# Altium integrated library My Library.IntLib: 29 symbols
Pins are listed as number, name and electrical type; pins without a type are passive.

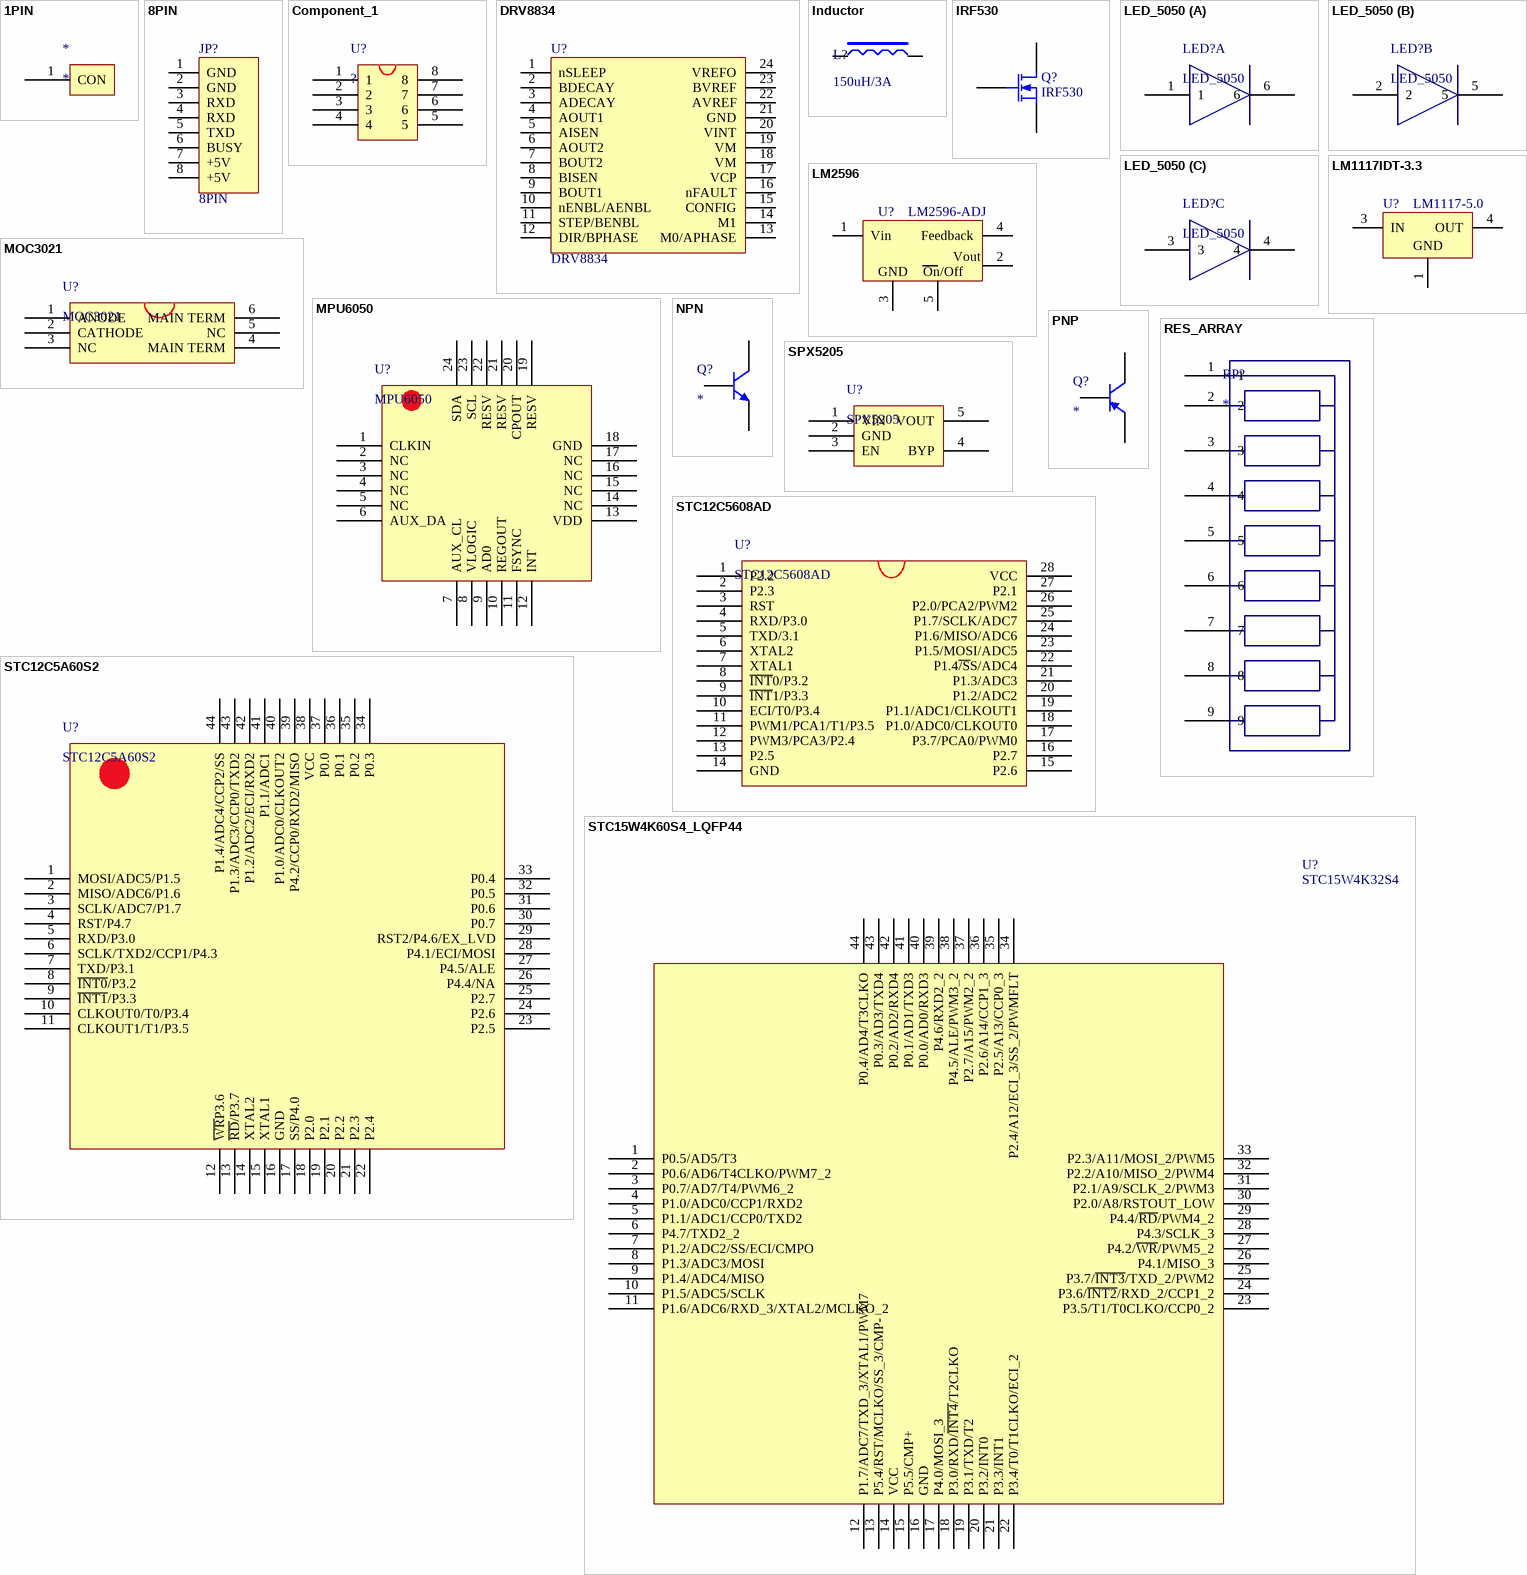
[diagram p0: symbols 1PIN to STC15W4K60S4_LQFP44]

## 1PIN
designator *
pins: 1 CON

## 8PIN
designator JP?
footprint LCD8
pins: 1 GND, 2 GND, 3 RXD, 4 RXD, 5 TXD, 6 BUSY, 7 +5V, 8 +5V

## Component_1
designator U?, comment ?
Unknow
footprint SOP-8
pins: 1, 2, 3, 4, 5, 6, 7, 8

## DRV8834
designator U?
footprint SOIC-24
pins: 1 nSLEEP, 2 BDECAY, 3 ADECAY, 4 AOUT1, 5 AISEN, 6 AOUT2, 7 BOUT2, 8 BISEN, 9 BOUT1, 10 nENBL/AENBL, 11 STEP/BENBL, 12 DIR/BPHASE, 13 M0/APHASE, 14 M1, 15 CONFIG, 16 nFAULT, 17 VCP, 18 VM, 19 VM, 20 VINT, 21 GND, 22 AVREF, 23 BVREF, 24 VREFO

## Inductor
designator L?, comment 150uH/3A
Inductor; Code_IEC: 1005; Value: 10mH; Published: 8-Jun-2000; LatestRevisionDate: 29-May-2009; LatestRevisionNote: IPC-7351 Footprint Added.; PackageReference: 0402-A; Publisher: Altium Limited; PackageDescription: Chip Inductor; Code_JEITA: 0402
footprint LDIP-5MM
simulation model INDUCTOR (Inductor)
signal-integrity model Inductor
footprint SMD-12*12
pins: 1, 2

## IRF530
designator Q?
N-Channel MOSFET; Published: 8-Jun-2000; LatestRevisionDate: 17-Jul-2002; LatestRevisionNote: Re-released for DXP Platform.; PackageVersion: 1995/1996; PackageReference: E3; Publisher: Altium Limited
footprint TO-220-3-SC; pin to pad 1>2 2>1
simulation model NMOS (MOSFET-N)
pins: 1 D, 2 G, 3 S

## LED_5050
designator LED?
part A pins: 1, 6
part B pins: 2, 5
part C pins: 3, 4

## LM1117IDT-3.3
designator U?, comment LM1117-5.0
800mA Low-Dropout Linear Regulator, 3-pin TO-252; PartNumber: LM1117IDT-3.3; Manufacturer: National Semiconductor; PackageTopMarking: NSUZXYTT*LM1117*IDT-3.3; PowerWise: N; CompType: LDO IC; Published: 4-Dec-2008; DatasheetVersion: Apr-2006; PackageVersion: revD, Feb-2009; PackageReference: TD03B; Publisher: Altium Limited; PackageDescription: TO252, Molded, Jedec, 6.8 x 6.10 x 2.30mm Body, 3 Lead, 2.28mm Pitch, Surface Mount; RoHS: N; PinCount: 3; Code_JEDEC: TO-252-AA; ComponentLink1Description: LM1117 Datasheet; ComponentLink1URL: http://www.national.com/ds/LM/LM1117.pdf; ComponentLink2Description: LM1117 Web Page; ComponentLink2URL: http://www.national.com/pf/LM/LM1117.html; ComponentLink3Description: TD03B Package Page; ComponentLink3URL: http://www.national.com/packaging/folders/td03b.html
footprint SOT-223
pins: 1 GND (power), 3 IN (power), 4 OUT (power)

## LM2596
designator U?, comment LM2596-ADJ
footprint TO-263-5
pins: 1 Vin, 2, 3, 4 Feedback, 5
text: Vout; GND; On/Off

## MOC3021
designator U?
footprint SOIC-6-2.54
pins: 1 ANODE, 2 CATHODE, 3 NC, 4 MAIN TERM, 5 NC, 6 MAIN TERM

## MPU6050
designator U?
footprint QFN4*4*0.9_24PIN
pins: 1 CLKIN, 2 NC, 3 NC, 4 NC, 5 NC, 6 AUX_DA, 7 AUX_CL, 8 VLOGIC, 9 AD0, 10 REGOUT, 11 FSYNC, 12 INT, 13 VDD, 14 NC, 15 NC, 16 NC, 17 NC, 18 GND, 19 RESV, 20 CPOUT, 21 RESV, 22 RESV, 23 SCL, 24 SDA

## NPN
designator Q?
footprint SOT-23-3
footprint T0-220-3
pins: 1 C, 2 B, 3 E

## PNP
designator Q?
footprint SOT-23-3
pins: 1 C, 2 B, 3 E

## RES_ARRAY
designator RP?
RES_ARRAY
pins: 1, 2, 3, 4, 5, 6, 7, 8, 9

## SPX5205
designator U?
VOLTAGE REGULATOR IC
pins: 1 VIN, 2 GND, 3 EN, 4 BYP, 5 VOUT

## STC12C5A60S2
designator U?
footprint LQFP-44
pins: 1 MOSI/ADC5/P1.5, 2 MISO/ADC6/P1.6, 3 SCLK/ADC7/P1.7, 4 RST/P4.7, 5 RXD/P3.0, 6 SCLK/TXD2/CCP1/P4.3, 7 TXD/P3.1, 8 ~{INT0}/P3.2, 9 ~{INT1}/P3.3, 10 CLKOUT0/T0/P3.4, 11 CLKOUT1/T1/P3.5, 12 ~{WR}P3.6, 13 ~{RD}/P3.7, 14 XTAL2, 15 XTAL1, 16 GND, 17 SS/P4.0, 18 P2.0, 19 P2.1, 20 P2.2, 21 P2.3, 22 P2.4, 23 P2.5, 24 P2.6, 25 P2.7, 26 P4.4/NA, 27 P4.5/ALE, 28 P4.1/ECI/MOSI, 29 RST2/P4.6/EX_LVD, 30 P0.7, 31 P0.6, 32 P0.5, 33 P0.4, 34 P0.3, 35 P0.2, 36 P0.1, 37 P0.0, 38 VCC, 39 P4.2/CCP0/RXD2/MISO, 40 P1.0/ADC0/CLKOUT2, 41 P1.1/ADC1, 42 P1.2/ADC2/ECI/RXD2, 43 P1.3/ADC3/CCP0/TXD2, 44 P1.4/ADC4/CCP2/SS

## STC12C5608AD
designator U?
footprint SOIC-28
pins: 1 P2.2, 2 P2.3, 3 RST, 4 RXD/P3.0, 5 TXD/3.1, 6 XTAL2, 7 XTAL1, 8 ~{INT}0/P3.2, 9 ~{INT}1/P3.3, 10 ECI/T0/P3.4, 11 PWM1/PCA1/T1/P3.5, 12 PWM3/PCA3/P2.4, 13 P2.5, 14 GND, 15 P2.6, 16 P2.7, 17 P3.7/PCA0/PWM0, 18 P1.0/ADC0/CLKOUT0, 19 P1.1/ADC1/CLKOUT1, 20 P1.2/ADC2, 21 P1.3/ADC3, 22 P1.4~{/S}S/ADC4, 23 P1.5/MOSI/ADC5, 24 P1.6/MISO/ADC6, 25 P1.7/SCLK/ADC7, 26 P2.0/PCA2/PWM2, 27 P2.1, 28 VCC

## STC15W4K60S4_LQFP44
designator U?, comment STC15W4K32S4
MCU
footprint LQFP-44
pins: 1 P0.5/AD5/T3, 2 P0.6/AD6/T4CLKO/PWM7_2, 3 P0.7/AD7/T4/PWM6_2, 4 P1.0/ADC0/CCP1/RXD2, 5 P1.1/ADC1/CCP0/TXD2, 6 P4.7/TXD2_2, 7 P1.2/ADC2/SS/ECI/CMPO, 8 P1.3/ADC3/MOSI, 9 P1.4/ADC4/MISO, 10 P1.5/ADC5/SCLK, 11 P1.6/ADC6/RXD_3/XTAL2/MCLKO_2, 12 P1.7/ADC7/TXD_3/XTAL1/PWM7, 13 P5.4/RST/MCLKO/SS_3/CMP-, 14 VCC, 15 P5.5/CMP+, 16 GND, 17 P4.0/MOSI_3, 18 P3.0/RXD/~{INT4}/T2CLKO, 19 P3.1/TXD/T2, 20 P3.2/INT0, 21 P3.3/INT1, 22 P3.4/T0/T1CLKO/ECI_2, 23 P3.5/T1/T0CLKO/CCP0_2, 24 P3.6/~{INT2}/RXD_2/CCP1_2, 25 P3.7/~{INT3}/TXD_2/PWM2, 26 P4.1/MISO_3, 27 P4.2/~{WR}/PWM5_2, 28 P4.3/SCLK_3, 29 P4.4/~{RD}/PWM4_2, 30 P2.0/A8/RSTOUT_LOW, 31 P2.1/A9/SCLK_2/PWM3, 32 P2.2/A10/MISO_2/PWM4, 33 P2.3/A11/MOSI_2/PWM5, 34 P2.4/A12/ECI_3/SS_2/PWMFLT, 35 P2.5/A13/CCP0_3, 36 P2.6/A14/CCP1_3, 37 P2.7/A15/PWM2_2, 38 P4.5/ALE/PWM3_2, 39 P4.6/RXD2_2, 40 P0.0/AD0/RXD3, 41 P0.1/AD1/TXD3, 42 P0.2/AD2/RXD4, 43 P0.3/AD3/TXD4, 44 P0.4/AD4/T3CLKO

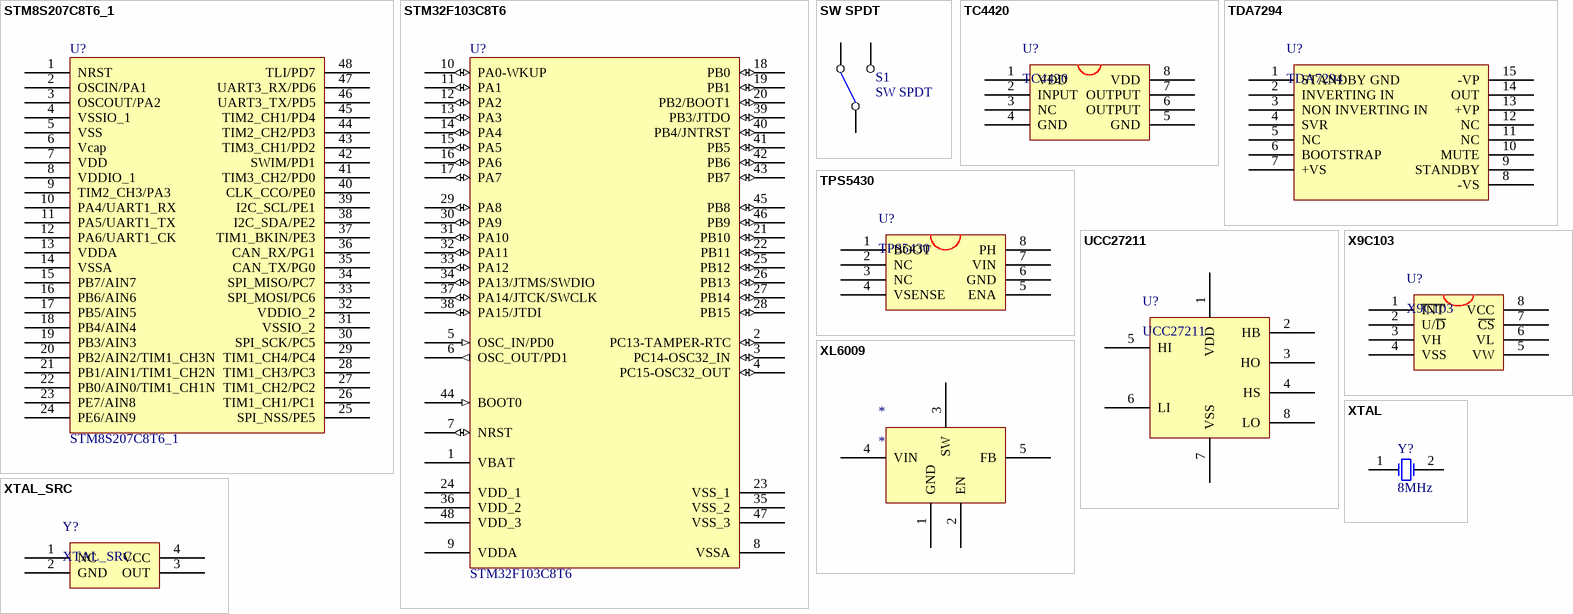
[diagram p1: symbols STM8S207C8T6_1 to XTAL_SRC]

## STM8S207C8T6_1
designator U?
MCU
footprint LQFP48-0.5
pins: 1 NRST, 2 OSCIN/PA1, 3 OSCOUT/PA2, 4 VSSIO_1, 5 VSS, 6 Vcap, 7 VDD, 8 VDDIO_1, 9 TIM2_CH3/PA3, 10 PA4/UART1_RX, 11 PA5/UART1_TX, 12 PA6/UART1_CK, 13 VDDA, 14 VSSA, 15 PB7/AIN7, 16 PB6/AIN6, 17 PB5/AIN5, 18 PB4/AIN4, 19 PB3/AIN3, 20 PB2/AIN2/TIM1_CH3N, 21 PB1/AIN1/TIM1_CH2N, 22 PB0/AIN0/TIM1_CH1N, 23 PE7/AIN8, 24 PE6/AIN9, 25 SPI_NSS/PE5, 26 TIM1_CH1/PC1, 27 TIM1_CH2/PC2, 28 TIM1_CH3/PC3, 29 TIM1_CH4/PC4, 30 SPI_SCK/PC5, 31 VSSIO_2, 32 VDDIO_2, 33 SPI_MOSI/PC6, 34 SPI_MISO/PC7, 35 CAN_TX/PG0, 36 CAN_RX/PG1, 37 TIM1_BKIN/PE3, 38 I2C_SDA/PE2, 39 I2C_SCL/PE1, 40 CLK_CCO/PE0, 41 TIM3_CH2/PD0, 42 SWIM/PD1, 43 TIM3_CH1/PD2, 44 TIM2_CH2/PD3, 45 TIM2_CH1/PD4, 46 UART3_TX/PD5, 47 UART3_RX/PD6, 48 TLI/PD7

## STM32F103C8T6
designator U?
STM32 ARM-based 32-bit MCU with 64 Kbytes Flash, 48-pin LQFP, Industrial Temperature; Published: 30-May-2008; DatasheetVersion: rev6, Mar-2008; PackageVersion: Mar-2008; PackageReference: LQFP48; Publisher: Altium Limited; PackageDescription: 48-Pin Low-Profile Quad Flat Pack, 7 x 7 mm Body, 0.5 mm Pitch (LQFP48); ComponentLink1Description: Manufacturer Link; ComponentLink1URL: www.st.com/stm32; ComponentLink2Description: Datasheet; ComponentLink2URL: http://www.st.com/stonline/products/literature/ds/13587.pdf
footprint LQFP48-0.5
pins: 1 VBAT (power), 2 PC13-TAMPER-RTC (io), 3 PC14-OSC32_IN (io), 4 PC15-OSC32_OUT (io), 5 OSC_IN/PD0 (in), 6 OSC_OUT/PD1 (out), 7 NRST (io), 8 VSSA (power), 9 VDDA (power), 10 PA0-WKUP (io), 11 PA1 (io), 12 PA2 (io), 13 PA3 (io), 14 PA4 (io), 15 PA5 (io), 16 PA6 (io), 17 PA7 (io), 18 PB0 (io), 19 PB1 (io), 20 PB2/BOOT1 (io), 21 PB10 (io), 22 PB11 (io), 23 VSS_1 (power), 24 VDD_1 (power), 25 PB12 (io), 26 PB13 (io), 27 PB14 (io), 28 PB15 (io), 29 PA8 (io), 30 PA9 (io), 31 PA10 (io), 32 PA11 (io), 33 PA12 (io), 34 PA13/JTMS/SWDIO (io), 35 VSS_2 (power), 36 VDD_2 (power), 37 PA14/JTCK/SWCLK (io), 38 PA15/JTDI (io), 39 PB3/JTDO (io), 40 PB4/JNTRST (io), 41 PB5 (io), 42 PB6 (io), 43 PB7 (io), 44 BOOT0 (in), 45 PB8 (io), 46 PB9 (io), 47 VSS_3 (power), 48 VDD_3 (power)

## SW SPDT
designator S1
footprint SW-2
pins: 1 NC, 2 COMMON, 3 NO

## TC4420
designator U?
footprint SOP-8
pins: 1 VDD, 2 INPUT, 3 NC, 4 GND, 5 GND, 6 OUTPUT, 7 OUTPUT, 8 VDD

## TDA7294
designator U?
pins: 1 STANDBY GND, 2 INVERTING IN, 3 NON INVERTING IN, 4 SVR, 5 NC, 6 BOOTSTRAP, 7 +VS, 8 -VS, 9 STANDBY, 10 MUTE, 11 NC, 12 NC, 13 +VP, 14 OUT, 15 -VP

## TPS5430
designator U?
POWER DOWN IC
footprint SOP-8
pins: 1 BOOT, 2 NC, 3 NC, 4 VSENSE, 5 ENA, 6 GND, 7 VIN, 8 PH

## UCC27211
designator U?
DRIVE IC
footprint SOP-8
pins: 1 VDD, 2 HB, 3 HO, 4 HS, 5 HI, 6 LI, 7 VSS, 8 LO

## X9C103
designator U?
footprint SOP-8
pins: 1 ~{INT}, 2 U/~{D}, 3 VH, 4 VSS, 5 VW, 6 VL, 7 ~{CS}, 8 VCC

## XL6009
designator *
footprint TO-263-5
pins: 1 GND, 2 EN, 3 SW, 4 VIN, 5 FB

## XTAL
designator Y?, comment 8MHz
Crystal Oscillator; Published: 8-Jun-2000; LatestRevisionDate: 17-Jul-2002; LatestRevisionNote: Re-released for DXP Platform.; PackageReference: R38; Publisher: Altium Limited
footprint SMD-5032
simulation model XTAL (Spice Subcircuit)
pins: 1 OSC1, 2 OSC2

## XTAL_SRC
designator Y?
pins: 1 NC, 2 GND, 3 OUT, 4 VCC